# EAGLE library part CD74HC4316 (library AnalogSwitches)
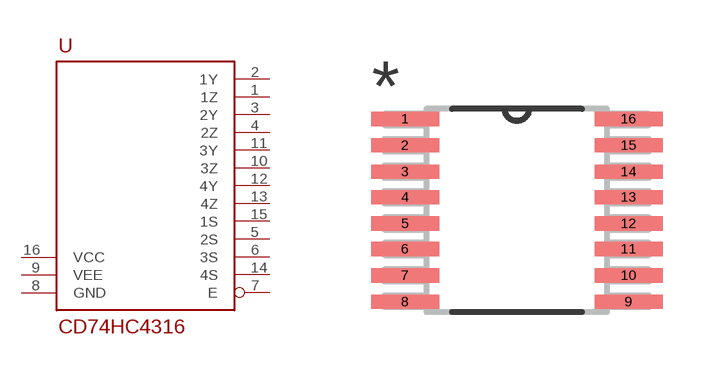
[diagram p2: symbol with the pads of SOP65P640X110-16N; footprint SOP65P640X110-16N]

Designator prefix -

## CD74HC4316  [SOP65P640X110-16N]
1  1Z
2  1Y
3  2Y
4  2Z
5  2S
6  3S
7  E
8  GND
9  VEE
10  3Z
11  3Y
12  4Y
13  4Z
14  4S
15  1S
16  VCC

## Footprint SOP65P640X110-16N (pad centres in mm)
smd 1.702 x 0.356: 1 -2.794,2.286; 2 -2.794,1.626; 3 -2.794,0.965; 4 -2.794,0.33; 5 -2.794,-0.33; 6 -2.794,-0.965; 7 -2.794,-1.626; 8 -2.794,-2.286; 9 2.794,-2.286; 10 2.794,-1.626; 11 2.794,-0.965; 12 2.794,-0.33; 13 2.794,0.33; 14 2.794,0.965; 15 2.794,1.626; 16 2.794,2.286